# Altium schematic symbol library HydrogreenSchematicLibrary.SchLib: 60 symbols (part 2 of 4)
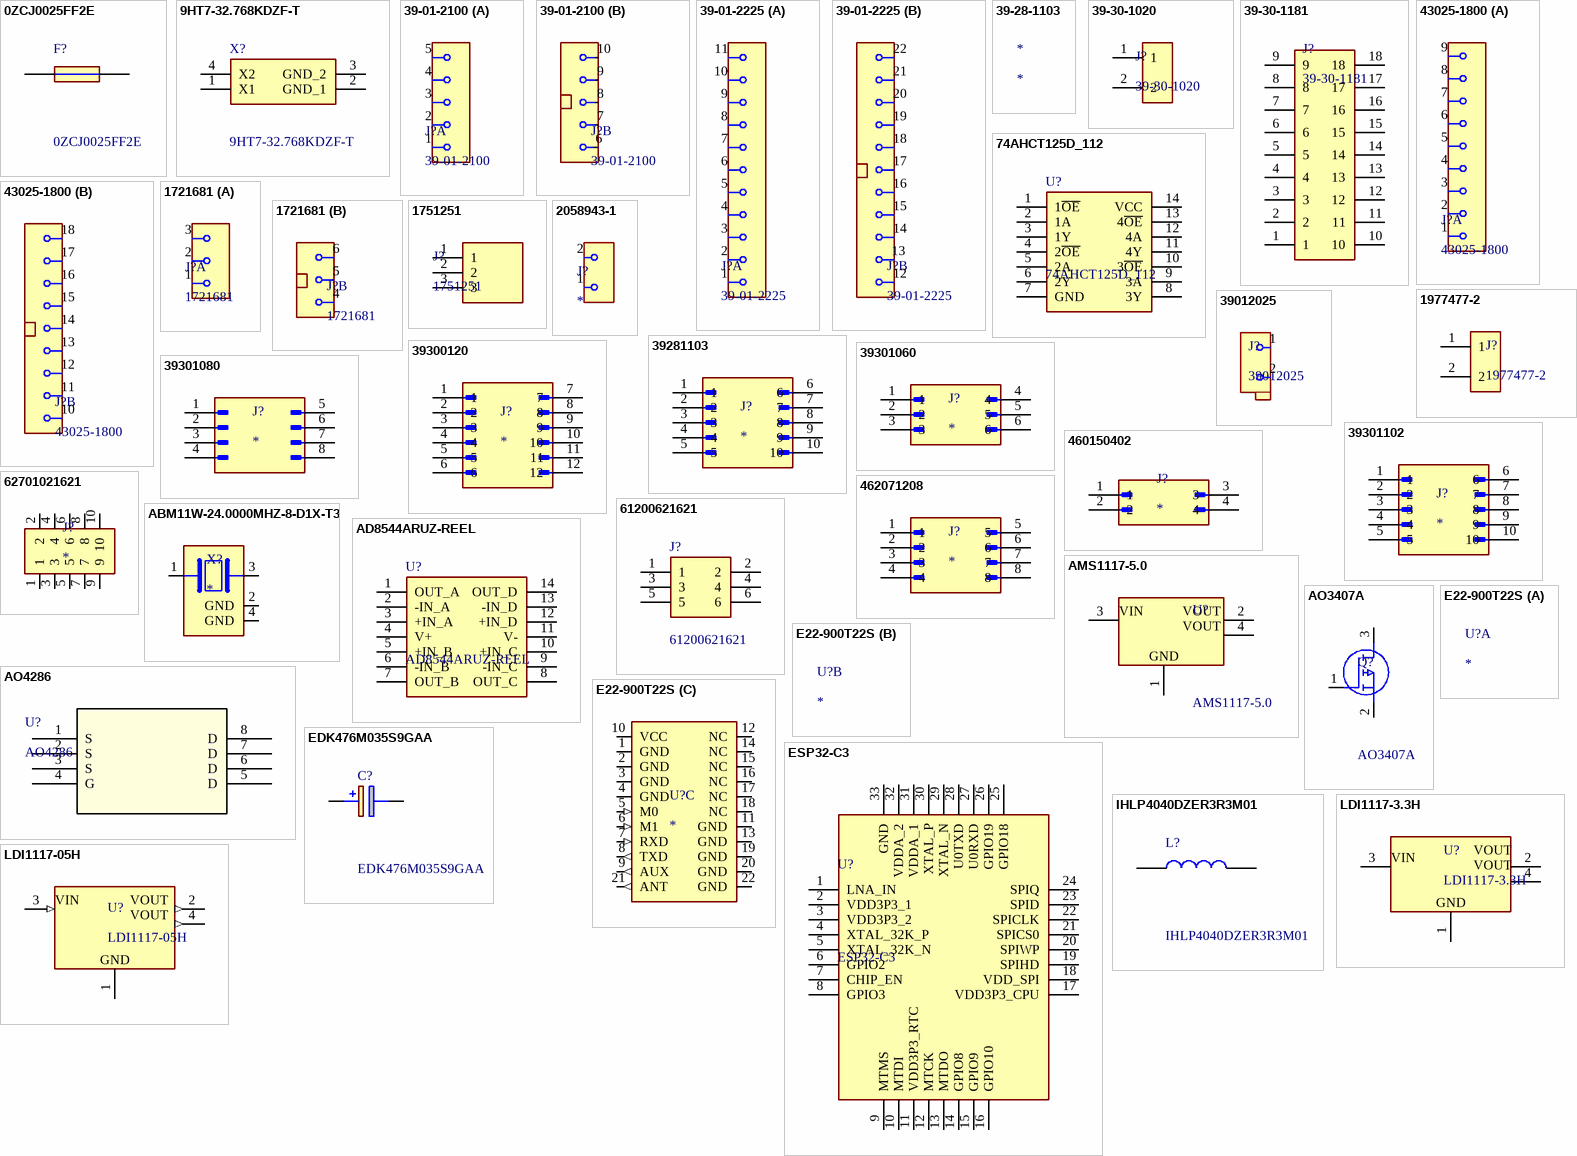
[diagram p2: symbols 0ZCJ0025FF2E to LDI1117-05H]

## 39300120
designator J?
Pin Header, Power, Wire-to-Board, 4.2 mm, 2 Rows, 12 Contacts, Through Hole Right Angle; Manufacturer: Molex; Manufacturer Lifecycle Status: ACTIVE; MP: 39300120; Connector Type: Rectangular; Contact Resistance: 10mΩ; Current Rating: 13A; Gender: Male; Glow Wire Compliant: Non-compliant; Insulation Resistance: 1GΩ; Max Current Rating: 6A; Max Voltage Rating (AC): 600V; Number of Circuits: 10; Number of Contacts: 12; Pitch: 4.2mm; Plating Thickness: 2.54µm; Row Spacing: 5.5mm; Package: None; Price: None; Value: *; Availability: Unavailable; Supplier: Farnell; Supplier Part Number: 4426659; Manufacturer Part Number: 39-30-0120; RoHS: Compliant; Category: Headers and Wire Housings; Stock: 2529; China RoHS: Compliant; Color: Natural; Contact Gender: Male; Contact Material: Brass; Contact Plating: Tin; Country of Origin: US; Depth: 19.4mm; Export Control Classification Number (ECCN) Code: EAR99; ELV: Compliant; Flammability Rating: UL94 V-0; Halogen Free: Low Halogen; Height: 11.78mm; Housing Color: Natural; Housing Material: Nylon; Harmonized Tariff Schedule (HTS) Code: 8536.69.40.30; Introduction Date: 1994-12-01; Lead Free: Lead Free; Lead Pitch: 4.2mm; Length: 26.4mm; Lifecycle Status: Production; Material: Nylon; Max Operating Temperature: 105°C; Min Operating Temperature: -40°C; Mounting Technology: Through Hole; Pins: 12; Number of Positions: 12; Number of Rows: 2; Orientation: Right Angle; Radiation Hardening: No; REACH SVHC: Yes; Schedule B: 8536694040, 8536694040|8536694040, 8536694040|8536694040|8536694040, 8536694040|8536694040|8536694040|8536694040; Termination: Solder; Voltage Rating: 600V; Voltage Rating (AC): 600V; Voltage Rating (DC): 600V; ComponentLink1URL: https://datasheet.octopart.com:443/39-30-0120-Molex-datasheet-164461616.pdf?src-supplier=Sager+Electronics; ComponentLink1Description: https://datasheet.octopart.com:443/39-30-0120-Molex-datasheet-164461616.pdf?src-supplier=Sager+Electronics; ComponentLink2URL: https://datasheet.octopart.com:443/0039300120-Molex-datasheet-150638829.pdf?src-supplier=Sager+Electronics; ComponentLink2Description: https://datasheet.octopart.com:443/0039300120-Molex-datasheet-150638829.pdf?src-supplier=Sager+Electronics; ComponentLink3URL: https://datasheet.octopart.com:443/39-30-0120-Molex-datasheet-177722898.pdf?src-supplier=IHS; ComponentLink3Description: https://datasheet.octopart.com:443/39-30-0120-Molex-datasheet-177722898.pdf?src-supplier=IHS; ComponentLink4URL: https://datasheet.octopart.com:443/39-30-0120-Molex-datasheet-13785307.pdf?src-supplier=Molex; ComponentLink4Description: https://datasheet.octopart.com:443/39-30-0120-Molex-datasheet-13785307.pdf?src-supplier=Molex; ComponentLink5URL: https://sigma.octopart.com:443/15644801/technical_drawing/Molex-39-30-0120.pdf?src-supplier=Molex; ComponentLink5Description: https://sigma.octopart.com:443/15644801/technical_drawing/Molex-39-30-0120.pdf?src-supplier=Molex; ComponentLink6URL: https://datasheet.octopart.com:443/039300120-Molex-datasheet-8338264.pdf?src-supplier=HQonline; ComponentLink6Description: https://datasheet.octopart.com:443/039300120-Molex-datasheet-8338264.pdf?src-supplier=HQonline; ComponentLink7URL: https://datasheet.octopart.com:443/39-30-0120-Molex-datasheet-5318197.pdf?src-supplier=HQonline; ComponentLink7Description: https://datasheet.octopart.com:443/39-30-0120-Molex-datasheet-5318197.pdf?src-supplier=HQonline; ComponentLink8URL: https://datasheet.octopart.com:443/39-30-0120-Molex-datasheet-154749323.pdf?src-supplier=Master+Electronics; ComponentLink8Description: https://datasheet.octopart.com:443/39-30-0120-Molex-datasheet-154749323.pdf?src-supplier=Master+Electronics; ComponentLink9URL: https://datasheet.octopart.com:443/39-30-0120-Molex-datasheet-8451564.pdf?src-supplier=Newark; ComponentLink9Description: https://datasheet.octopart.com:443/39-30-0120-Molex-datasheet-8451564.pdf?src-supplier=Newark; ComponentLink10URL: https://datasheet.octopart.com:443/39-30-0120-Molex-datasheet-8347247.pdf?src-supplier=Newark; ComponentLink10Description: https://datasheet.octopart.com:443/39-30-0120-Molex-datasheet-8347247.pdf?src-supplier=Newark; ComponentLink11URL: https://datasheet.octopart.com:443/39-30-0120-Molex-datasheet-5369630.pdf?src-supplier=Newark; ComponentLink11Description: https://datasheet.octopart.com:443/39-30-0120-Molex-datasheet-5369630.pdf?src-supplier=Newark; ComponentLink12URL: https://datasheet.octopart.com:443/39-30-0120-Molex-datasheet-101582402.pdf?src-supplier=Newark; ComponentLink12Description: https://datasheet.octopart.com:443/39-30-0120-Molex-datasheet-101582402.pdf?src-supplier=Newark; ComponentLink13URL: https://datasheet.octopart.com:443/39-30-0120-Molex-datasheet-21207475.pdf?src-supplier=Newark; ComponentLink13Description: https://datasheet.octopart.com:443/39-30-0120-Molex-datasheet-21207475.pdf?src-supplier=Newark; ComponentLink14URL: https://datasheet.octopart.com:443/39-30-0120-Molex-datasheet-23528.pdf?src-supplier=Newark; ComponentLink14Description: https://datasheet.octopart.com:443/39-30-0120-Molex-datasheet-23528.pdf?src-supplier=Newark; ComponentLink15URL: https://datasheet.octopart.com:443/39-30-0120-Molex-datasheet-168216307.pdf?src-supplier=TME; ComponentLink15Description: https://datasheet.octopart.com:443/39-30-0120-Molex-datasheet-168216307.pdf?src-supplier=TME; ComponentLink16URL: https://datasheet.octopart.com:443/39-30-0120-Molex-datasheet-166162034.pdf?src-supplier=Jameco; ComponentLink16Description: https://datasheet.octopart.com:443/39-30-0120-Molex-datasheet-166162034.pdf?src-supplier=Jameco; ComponentLink17URL: https://datasheet.octopart.com:443/39-30-0120-Molex-datasheet-7583997.pdf?src-supplier=Jameco; ComponentLink17Description: https://datasheet.octopart.com:443/39-30-0120-Molex-datasheet-7583997.pdf?src-supplier=Jameco; ComponentLink18URL: https://datasheet.octopart.com:443/39-30-0120-Molex-datasheet-140183161.pdf?src-supplier=RS+(Formerly+Allied+Electronics); ComponentLink18Description: https://datasheet.octopart.com:443/39-30-0120-Molex-datasheet-140183161.pdf?src-supplier=RS+(Formerly+Allied+Electronics); ComponentLink19URL: https://datasheet.octopart.com:443/39-30-0120-Molex-datasheet-120148713.pdf?src-supplier=RS+(Formerly+Allied+Electronics); ComponentLink19Description: https://datasheet.octopart.com:443/39-30-0120-Molex-datasheet-120148713.pdf?src-supplier=RS+(Formerly+Allied+Electronics); ComponentLink20URL: https://datasheet.octopart.com:443/39-30-0120-Molex-datasheet-34442213.pdf?src-supplier=RS+(Formerly+Allied+Electronics); ComponentLink20Description: https://datasheet.octopart.com:443/39-30-0120-Molex-datasheet-34442213.pdf?src-supplier=RS+(Formerly+Allied+Electronics); ComponentLink21URL: https://datasheet.octopart.com:443/39-30-0120-Molex-datasheet-62104192.pdf?src-supplier=Electro+Sonic; ComponentLink21Description: https://datasheet.octopart.com:443/39-30-0120-Molex-datasheet-62104192.pdf?src-supplier=Electro+Sonic; ComponentLink22URL: https://datasheet.octopart.com:443/39-30-0120-Molex-datasheet-37170044.pdf?src-supplier=Electro+Sonic; ComponentLink22Description: https://datasheet.octopart.com:443/39-30-0120-Molex-datasheet-37170044.pdf?src-supplier=Electro+Sonic; ComponentLink23URL: https://datasheet.octopart.com:443/39-30-0120-Molex-datasheet-23709666.pdf?src-supplier=Electro+Sonic; ComponentLink23Description: https://datasheet.octopart.com:443/39-30-0120-Molex-datasheet-23709666.pdf?src-supplier=Electro+Sonic; ComponentLink24URL: https://datasheet.octopart.com:443/0039300120-Molex-datasheet-11896684.pdf?src-supplier=Arrow+Electronics; ComponentLink24Description: https://datasheet.octopart.com:443/0039300120-Molex-datasheet-11896684.pdf?src-supplier=Arrow+Electronics; ComponentLink25URL: https://datasheet.octopart.com:443/39-30-0120-Molex-datasheet-10996185.pdf?src-supplier=Farnell; ComponentLink25Description: https://datasheet.octopart.com:443/39-30-0120-Molex-datasheet-10996185.pdf?src-supplier=Farnell; ComponentLink26URL: https://datasheet.octopart.com:443/39-30-0120-Molex-datasheet-5312830.pdf?src-supplier=Farnell; ComponentLink26Description: https://datasheet.octopart.com:443/39-30-0120-Molex-datasheet-5312830.pdf?src-supplier=Farnell; ComponentLink27URL: https://datasheet.octopart.com:443/39-30-0120-Molex-datasheet-8361750.pdf?src-supplier=Verical; ComponentLink27Description: https://datasheet.octopart.com:443/39-30-0120-Molex-datasheet-8361750.pdf?src-supplier=Verical; ComponentLink28URL: https://datasheet.octopart.com:443/39-30-0120-Molex-datasheet-139323.pdf?src-supplier=DigiKey; ComponentLink28Description: https://datasheet.octopart.com:443/39-30-0120-Molex-datasheet-139323.pdf?src-supplier=DigiKey; ComponentLink29URL: http://sigma.octopart.com:80/15645366/rohs_certificate/Molex-39-30-0120.pdf?src-supplier=Compliance+Statements; ComponentLink29Description: http://sigma.octopart.com:80/15645366/rohs_certificate/Molex-39-30-0120.pdf?src-supplier=Compliance+Statements; ComponentLink30URL: http://sigma.octopart.com:80/reach_statement/Molex-company-74.pdf?src-supplier=Compliance+Statements; ComponentLink30Description: http://sigma.octopart.com:80/reach_statement/Molex-company-74.pdf?src-supplier=Compliance+Statements; ComponentLink31URL: http://sigma.octopart.com:80/rohs_statement/Molex-company-73.pdf?src-supplier=Compliance+Statements; ComponentLink31Description: http://sigma.octopart.com:80/rohs_statement/Molex-company-73.pdf?src-supplier=Compliance+Statements; ComponentLink32URL: http://sigma.octopart.com:80/conflict_mineral_statement/Molex-company-72.pdf?src-supplier=Compliance+Statements; ComponentLink32Description: http://sigma.octopart.com:80/conflict_mineral_statement/Molex-company-72.pdf?src-supplier=Compliance+Statements
footprint 39300120
pins: 1, 2, 3, 4, 5, 6, 7, 8, 9, 10, 11, 12

## 39301060
designator J?
Mini-Fit Jr. Through Hole PCB Header, Right Angle, 6 Contacts, 2 Rows, 4.2mm Pitch; Manufacturer: Molex; Manufacturer Lifecycle Status: ACTIVE; MP: 39301060; Approvals: CSA, TUV, UL; Connector Type: Power, Rectangular; Contact Resistance: 10mΩ; Current Rating: 8A; Gender: Male; Glow Wire Compliant: Non-compliant; Insulation Resistance: 1GΩ; Max Voltage Rating (AC): 600V; Number of Circuits: 4; Number of Contacts: 6; Number of Lines: 2; Plating Thickness: 2.54µm; Row Spacing: 5.5mm; Test Voltage: 1.5kV; Price: None; Value: *; Availability: Unavailable; Package: None; Supplier: RS; Supplier Part Number: 5109859P; Manufacturer Part Number: 39-30-1060; RoHS: Compliant; Category: Headers and Wire Housings; Stock: 3490; China RoHS: Compliant; Color: Natural; Contact Gender: Male; Contact Material: Brass; Contact Plating: Tin; Country of Origin: US; Depth: 12.8mm; ELV: Compliant; Flammability Rating: UL94 V-2; Halogen Free: Low Halogen; Height: 11.65mm; Housing Color: Natural; Housing Material: Nylon; Lead Free: Lead Free; Lead Pitch: 4.2mm; Length: 13.8mm; Lifecycle Status: Production; Material: Nylon; Max Current Rating: 8A; Max Operating Temperature: 105°C; Min Operating Temperature: -40°C; Mounting Technology: PCB, Through Hole; Pins: 6; Number of Poles: 6; Number of Positions: 6; Number of Rows: 1; Orientation: Right Angle, Vertical; Packaging: Bulk; Pitch: 4.2mm; Radiation Hardening: No; REACH SVHC: Yes; Schedule B: 8536694040, 8536694040|8536694040|8536694040|8536694040|8536694040|8536694040|8536694040|8536694040|8536694040|8536694040|8536694040|8536694040|8536694040|8536694040|8536694040|8536694040|8536694040|8536694040|8536694040|8536694040|8536694040|8536694040|8536694040|85; Termination: Solder; Voltage Rating: 600V; Voltage Rating (AC): 600V; Voltage Rating (DC): 600V; Working Voltage: 600V; ComponentLink1URL: https://datasheet.octopart.com:443/39-30-1060-Molex-datasheet-120074128.pdf?src-supplier=Farnell; ComponentLink1Description: https://datasheet.octopart.com:443/39-30-1060-Molex-datasheet-120074128.pdf?src-supplier=Farnell; ComponentLink2URL: https://datasheet.octopart.com:443/39-30-1060-Molex-datasheet-101582409.pdf?src-supplier=Farnell; ComponentLink2Description: https://datasheet.octopart.com:443/39-30-1060-Molex-datasheet-101582409.pdf?src-supplier=Farnell; ComponentLink3URL: https://datasheet.octopart.com:443/39-30-1060-Molex-datasheet-14359237.pdf?src-supplier=Farnell; ComponentLink3Description: https://datasheet.octopart.com:443/39-30-1060-Molex-datasheet-14359237.pdf?src-supplier=Farnell; ComponentLink4URL: https://datasheet.octopart.com:443/39-30-1060-Molex-datasheet-8451564.pdf?src-supplier=Farnell; ComponentLink4Description: https://datasheet.octopart.com:443/39-30-1060-Molex-datasheet-8451564.pdf?src-supplier=Farnell; ComponentLink5URL: https://datasheet.octopart.com:443/39-30-1060-Molex-datasheet-8377082.pdf?src-supplier=Farnell; ComponentLink5Description: https://datasheet.octopart.com:443/39-30-1060-Molex-datasheet-8377082.pdf?src-supplier=Farnell; ComponentLink6URL: https://datasheet.octopart.com:443/39-30-1060-Molex-datasheet-8338264.pdf?src-supplier=Farnell; ComponentLink6Description: https://datasheet.octopart.com:443/39-30-1060-Molex-datasheet-8338264.pdf?src-supplier=Farnell; ComponentLink7URL: https://datasheet.octopart.com:443/039301060-Molex-datasheet-8338717.pdf?src-supplier=Upverter; ComponentLink7Description: https://datasheet.octopart.com:443/039301060-Molex-datasheet-8338717.pdf?src-supplier=Upverter; ComponentLink8URL: https://datasheet.octopart.com:443/39-30-1060-Molex-datasheet-13785479.pdf?src-supplier=Sager+Electronics; ComponentLink8Description: https://datasheet.octopart.com:443/39-30-1060-Molex-datasheet-13785479.pdf?src-supplier=Sager+Electronics; ComponentLink9URL: https://sigma.octopart.com:443/15644801/technical_drawing/Molex-39-30-1060.pdf?src-supplier=Molex; ComponentLink9Description: https://sigma.octopart.com:443/15644801/technical_drawing/Molex-39-30-1060.pdf?src-supplier=Molex; ComponentLink10URL: https://datasheet.octopart.com:443/39-30-1060-Molex-datasheet-154749339.pdf?src-supplier=Master+Electronics; ComponentLink10Description: https://datasheet.octopart.com:443/39-30-1060-Molex-datasheet-154749339.pdf?src-supplier=Master+Electronics; ComponentLink11URL: https://datasheet.octopart.com:443/39-30-1060-Molex-datasheet-34205327.pdf?src-supplier=Electro+Sonic; ComponentLink11Description: https://datasheet.octopart.com:443/39-30-1060-Molex-datasheet-34205327.pdf?src-supplier=Electro+Sonic; ComponentLink12URL: https://datasheet.octopart.com:443/39-30-1060-Molex-datasheet-62104200.pdf?src-supplier=Electro+Sonic; ComponentLink12Description: https://datasheet.octopart.com:443/39-30-1060-Molex-datasheet-62104200.pdf?src-supplier=Electro+Sonic; ComponentLink13URL: https://datasheet.octopart.com:443/39-30-1060-Molex-datasheet-23709672.pdf?src-supplier=Electro+Sonic; ComponentLink13Description: https://datasheet.octopart.com:443/39-30-1060-Molex-datasheet-23709672.pdf?src-supplier=Electro+Sonic; ComponentLink14URL: https://datasheet.octopart.com:443/39-30-1060-Molex-datasheet-140183176.pdf?src-supplier=RS+(Formerly+Allied+Electronics); ComponentLink14Description: https://datasheet.octopart.com:443/39-30-1060-Molex-datasheet-140183176.pdf?src-supplier=RS+(Formerly+Allied+Electronics); ComponentLink15URL: https://datasheet.octopart.com:443/39-30-1060-Molex-datasheet-120148730.pdf?src-supplier=RS+(Formerly+Allied+Electronics); ComponentLink15Description: https://datasheet.octopart.com:443/39-30-1060-Molex-datasheet-120148730.pdf?src-supplier=RS+(Formerly+Allied+Electronics); ComponentLink16URL: https://datasheet.octopart.com:443/39-30-1060-Molex-datasheet-34442213.pdf?src-supplier=RS+(Formerly+Allied+Electronics); ComponentLink16Description: https://datasheet.octopart.com:443/39-30-1060-Molex-datasheet-34442213.pdf?src-supplier=RS+(Formerly+Allied+Electronics); ComponentLink17URL: https://datasheet.octopart.com:443/39-30-1060-Molex-datasheet-9719424.pdf?src-supplier=RS+(Formerly+Allied+Electronics); ComponentLink17Description: https://datasheet.octopart.com:443/39-30-1060-Molex-datasheet-9719424.pdf?src-supplier=RS+(Formerly+Allied+Electronics); ComponentLink18URL: https://datasheet.octopart.com:443/39-30-1060-Molex-datasheet-72655.pdf?src-supplier=RS+(Formerly+Allied+Electronics); ComponentLink18Description: https://datasheet.octopart.com:443/39-30-1060-Molex-datasheet-72655.pdf?src-supplier=RS+(Formerly+Allied+Electronics); ComponentLink19URL: https://datasheet.octopart.com:443/39-30-1060-Molex-datasheet-166013077.pdf?src-supplier=Jameco; ComponentLink19Description: https://datasheet.octopart.com:443/39-30-1060-Molex-datasheet-166013077.pdf?src-supplier=Jameco; ComponentLink20URL: https://datasheet.octopart.com:443/39301060-Molex-datasheet-8215776.pdf?src-supplier=Jameco; ComponentLink20Description: https://datasheet.octopart.com:443/39301060-Molex-datasheet-8215776.pdf?src-supplier=Jameco; ComponentLink21URL: https://datasheet.octopart.com:443/39-30-1060-Molex-datasheet-33002875.pdf?src-supplier=Newark; ComponentLink21Description: https://datasheet.octopart.com:443/39-30-1060-Molex-datasheet-33002875.pdf?src-supplier=Newark; ComponentLink22URL: https://datasheet.octopart.com:443/39-30-1060-Molex-datasheet-21207487.pdf?src-supplier=Newark; ComponentLink22Description: https://datasheet.octopart.com:443/39-30-1060-Molex-datasheet-21207487.pdf?src-supplier=Newark; ComponentLink23URL: https://datasheet.octopart.com:443/39-30-1060-Molex-datasheet-2405.pdf?src-supplier=Newark; ComponentLink23Description: https://datasheet.octopart.com:443/39-30-1060-Molex-datasheet-2405.pdf?src-supplier=Newark; ComponentLink24URL: https://datasheet.octopart.com:443/39-30-1060-Molex-datasheet-21395541.pdf?src-supplier=TME; ComponentLink24Description: https://datasheet.octopart.com:443/39-30-1060-Molex-datasheet-21395541.pdf?src-supplier=TME; ComponentLink25URL: https://datasheet.octopart.com:443/0039301060-Molex-datasheet-11554567.pdf?src-supplier=Arrow+Electronics; ComponentLink25Description: https://datasheet.octopart.com:443/0039301060-Molex-datasheet-11554567.pdf?src-supplier=Arrow+Electronics; ComponentLink26URL: https://datasheet.octopart.com:443/39-30-1060-Molex-datasheet-8361750.pdf?src-supplier=Verical; ComponentLink26Description: https://datasheet.octopart.com:443/39-30-1060-Molex-datasheet-8361750.pdf?src-supplier=Verical; ComponentLink27URL: https://datasheet.octopart.com:443/39-30-1060-Molex-datasheet-129274.pdf?src-supplier=DigiKey; ComponentLink27Description: https://datasheet.octopart.com:443/39-30-1060-Molex-datasheet-129274.pdf?src-supplier=DigiKey; ComponentLink28URL: http://sigma.octopart.com:80/15645378/rohs_certificate/Molex-39-30-1060.pdf?src-supplier=Compliance+Statements; ComponentLink28Description: http://sigma.octopart.com:80/15645378/rohs_certificate/Molex-39-30-1060.pdf?src-supplier=Compliance+Statements; ComponentLink29URL: http://sigma.octopart.com:80/conflict_mineral_statement/Molex-company-72.pdf?src-supplier=Compliance+Statements; ComponentLink29Description: http://sigma.octopart.com:80/conflict_mineral_statement/Molex-company-72.pdf?src-supplier=Compliance+Statements; ComponentLink30URL: http://sigma.octopart.com:80/rohs_statement/Molex-company-73.pdf?src-supplier=Compliance+Statements; ComponentLink30Description: http://sigma.octopart.com:80/rohs_statement/Molex-company-73.pdf?src-supplier=Compliance+Statements; ComponentLink31URL: http://sigma.octopart.com:80/reach_statement/Molex-company-74.pdf?src-supplier=Compliance+Statements; ComponentLink31Description: http://sigma.octopart.com:80/reach_statement/Molex-company-74.pdf?src-supplier=Compliance+Statements
footprint 39301060
pins: 1, 2, 3, 4, 5, 6

## 39301080
designator J?
Connector Wire to Board Header 8 Position 4.2mm Solder Right Angle Thru-Hole Tray; Manufacturer Lifecycle Status: ACTIVE; MF: Molex; Approvals: CSA, TUV, UL; Connector Type: Power, Rectangular; Contact Resistance: 10mΩ; Current Rating: 8A; Gender: Male; Glow Wire Compliant: Non-compliant; Insulation Resistance: 1GΩ; Max Current Rating: 5A; Max Voltage Rating (DC): 250V; Number of Circuits: 6; Number of Contacts: 8; Plating Thickness: 2.54µm; Voltage Rating: 600V; SnapEDA_Link: https://www.snapeda.com/parts/39-30-1080/Molex/view-part/?ref=snap; Package: None; Value: *; MP: 39-30-1080; Check_prices: https://www.snapeda.com/parts/39-30-1080/Molex/view-part/?ref=eda; Supplier: RS; Supplier Part Number: 5109865P; Manufacturer: Molex; Manufacturer Part Number: 39-30-1080; RoHS: Compliant; Category: Headers and Wire Housings; Stock: 1025; China RoHS: Compliant; Color: Natural; Contact Gender: Male; Contact Material: Brass; Contact Plating: Tin; Country of Origin: US; Depth: 5.57mm; ELV: Compliant; Flammability Rating: UL94 V-2; Halogen Free: Low Halogen; Height: 9.9mm; Housing Material: Nylon; Lead Free: Lead Free; Lead Pitch: 4.2mm; Length: 15.65mm; Lifecycle Status: Production; Material: Nylon; Max Operating Temperature: 105°C; Min Operating Temperature: -40°C; Mounting Technology: PCB, Through Hole; Pins: 8; Number of Poles: 8; Number of Positions: 8; Number of Rows: 2; Orientation: Right Angle; Packaging: Bulk; Pitch: 4.2mm; Radiation Hardening: No; REACH SVHC: Yes; Row Spacing: 4.2mm; Schedule B: 8536694040, 8536694040|8536694040|8536694040|8536694040|8536694040; Termination: Solder; Voltage Rating (AC): 600V; Voltage Rating (DC): 600V; Working Voltage: 600V; ComponentLink1URL: https://datasheet.octopart.com:443/39-30-1080-Molex-datasheet-120074128.pdf?src-supplier=IHS; ComponentLink1Description: https://datasheet.octopart.com:443/39-30-1080-Molex-datasheet-120074128.pdf?src-supplier=IHS; ComponentLink2URL: https://datasheet.octopart.com:443/39-30-1080-Molex-datasheet-13785313.pdf?src-supplier=Sager+Electronics; ComponentLink2Description: https://datasheet.octopart.com:443/39-30-1080-Molex-datasheet-13785313.pdf?src-supplier=Sager+Electronics; ComponentLink3URL: https://sigma.octopart.com:443/15644801/technical_drawing/Molex-39-30-1080.pdf?src-supplier=Molex; ComponentLink3Description: https://sigma.octopart.com:443/15644801/technical_drawing/Molex-39-30-1080.pdf?src-supplier=Molex; ComponentLink4URL: https://datasheet.octopart.com:443/39-30-1080-Molex-datasheet-12555477.pdf?src-supplier=Molex; ComponentLink4Description: https://datasheet.octopart.com:443/39-30-1080-Molex-datasheet-12555477.pdf?src-supplier=Molex; ComponentLink5URL: https://datasheet.octopart.com:443/039301080-Molex-datasheet-8338717.pdf?src-supplier=Future+Electronics; ComponentLink5Description: https://datasheet.octopart.com:443/039301080-Molex-datasheet-8338717.pdf?src-supplier=Future+Electronics; ComponentLink6URL: https://datasheet.octopart.com:443/39301080-Molex-datasheet-137316104.pdf?src-supplier=Future+Electronics; ComponentLink6Description: https://datasheet.octopart.com:443/39301080-Molex-datasheet-137316104.pdf?src-supplier=Future+Electronics; ComponentLink7URL: https://datasheet.octopart.com:443/39-30-1080-Molex-datasheet-154749340.pdf?src-supplier=Master+Electronics; ComponentLink7Description: https://datasheet.octopart.com:443/39-30-1080-Molex-datasheet-154749340.pdf?src-supplier=Master+Electronics; ComponentLink8URL: https://datasheet.octopart.com:443/39-30-1080-Molex-datasheet-101582412.pdf?src-supplier=Farnell; ComponentLink8Description: https://datasheet.octopart.com:443/39-30-1080-Molex-datasheet-101582412.pdf?src-supplier=Farnell; ComponentLink9URL: https://datasheet.octopart.com:443/39-30-1080-Molex-datasheet-15687899.pdf?src-supplier=Farnell; ComponentLink9Description: https://datasheet.octopart.com:443/39-30-1080-Molex-datasheet-15687899.pdf?src-supplier=Farnell; ComponentLink10URL: https://datasheet.octopart.com:443/39-30-1080-Molex-datasheet-13550729.pdf?src-supplier=Farnell; ComponentLink10Description: https://datasheet.octopart.com:443/39-30-1080-Molex-datasheet-13550729.pdf?src-supplier=Farnell; ComponentLink11URL: https://datasheet.octopart.com:443/39-30-1080-Molex-datasheet-34223370.pdf?src-supplier=Electro+Sonic; ComponentLink11Description: https://datasheet.octopart.com:443/39-30-1080-Molex-datasheet-34223370.pdf?src-supplier=Electro+Sonic; ComponentLink12URL: https://datasheet.octopart.com:443/39-30-1080-Molex-datasheet-62104202.pdf?src-supplier=Electro+Sonic; ComponentLink12Description: https://datasheet.octopart.com:443/39-30-1080-Molex-datasheet-62104202.pdf?src-supplier=Electro+Sonic; ComponentLink13URL: https://datasheet.octopart.com:443/39-30-1080-Molex-datasheet-23709674.pdf?src-supplier=Electro+Sonic; ComponentLink13Description: https://datasheet.octopart.com:443/39-30-1080-Molex-datasheet-23709674.pdf?src-supplier=Electro+Sonic; ComponentLink14URL: https://datasheet.octopart.com:443/39-30-1080-Molex-datasheet-140183179.pdf?src-supplier=RS+(Formerly+Allied+Electronics); ComponentLink14Description: https://datasheet.octopart.com:443/39-30-1080-Molex-datasheet-140183179.pdf?src-supplier=RS+(Formerly+Allied+Electronics); ComponentLink15URL: https://datasheet.octopart.com:443/39-30-1080-Molex-datasheet-120148733.pdf?src-supplier=RS+(Formerly+Allied+Electronics); ComponentLink15Description: https://datasheet.octopart.com:443/39-30-1080-Molex-datasheet-120148733.pdf?src-supplier=RS+(Formerly+Allied+Electronics); ComponentLink16URL: https://datasheet.octopart.com:443/39-30-1080-Molex-datasheet-34442213.pdf?src-supplier=RS+(Formerly+Allied+Electronics); ComponentLink16Description: https://datasheet.octopart.com:443/39-30-1080-Molex-datasheet-34442213.pdf?src-supplier=RS+(Formerly+Allied+Electronics); ComponentLink17URL: https://datasheet.octopart.com:443/39-30-1080-Molex-datasheet-9783732.pdf?src-supplier=RS+(Formerly+Allied+Electronics); ComponentLink17Description: https://datasheet.octopart.com:443/39-30-1080-Molex-datasheet-9783732.pdf?src-supplier=RS+(Formerly+Allied+Electronics); ComponentLink18URL: https://datasheet.octopart.com:443/39-30-1080-Molex-datasheet-72655.pdf?src-supplier=RS+(Formerly+Allied+Electronics); ComponentLink18Description: https://datasheet.octopart.com:443/39-30-1080-Molex-datasheet-72655.pdf?src-supplier=RS+(Formerly+Allied+Electronics); ComponentLink19URL: https://datasheet.octopart.com:443/39-30-1080-Molex-datasheet-156091078.pdf?src-supplier=Jameco; ComponentLink19Description: https://datasheet.octopart.com:443/39-30-1080-Molex-datasheet-156091078.pdf?src-supplier=Jameco; ComponentLink20URL: https://datasheet.octopart.com:443/39301080-Molex-datasheet-8197183.pdf?src-supplier=Jameco; ComponentLink20Description: https://datasheet.octopart.com:443/39301080-Molex-datasheet-8197183.pdf?src-supplier=Jameco; ComponentLink21URL: https://datasheet.octopart.com:443/39-30-1080-Molex-datasheet-7269772.pdf?src-supplier=Jameco; ComponentLink21Description: https://datasheet.octopart.com:443/39-30-1080-Molex-datasheet-7269772.pdf?src-supplier=Jameco; ComponentLink22URL: https://datasheet.octopart.com:443/39-30-1080-Molex-datasheet-33002877.pdf?src-supplier=Newark; ComponentLink22Description: https://datasheet.octopart.com:443/39-30-1080-Molex-datasheet-33002877.pdf?src-supplier=Newark; ComponentLink23URL: https://datasheet.octopart.com:443/39-30-1080-Molex-datasheet-21207490.pdf?src-supplier=Newark; ComponentLink23Description: https://datasheet.octopart.com:443/39-30-1080-Molex-datasheet-21207490.pdf?src-supplier=Newark; ComponentLink24URL: https://datasheet.octopart.com:443/39-30-1080-Molex-datasheet-2405.pdf?src-supplier=Newark; ComponentLink24Description: https://datasheet.octopart.com:443/39-30-1080-Molex-datasheet-2405.pdf?src-supplier=Newark; ComponentLink25URL: https://datasheet.octopart.com:443/39-30-1080-Molex-datasheet-21395541.pdf?src-supplier=TME; ComponentLink25Description: https://datasheet.octopart.com:443/39-30-1080-Molex-datasheet-21395541.pdf?src-supplier=TME; ComponentLink26URL: https://datasheet.octopart.com:443/39-30-1080-Molex-datasheet-8361750.pdf?src-supplier=Verical; ComponentLink26Description: https://datasheet.octopart.com:443/39-30-1080-Molex-datasheet-8361750.pdf?src-supplier=Verical; ComponentLink27URL: https://datasheet.octopart.com:443/39-30-1080-Molex-datasheet-145504.pdf?src-supplier=DigiKey; ComponentLink27Description: https://datasheet.octopart.com:443/39-30-1080-Molex-datasheet-145504.pdf?src-supplier=DigiKey; ComponentLink28URL: http://sigma.octopart.com:80/15645381/rohs_certificate/Molex-39-30-1080.pdf?src-supplier=Compliance+Statements; ComponentLink28Description: http://sigma.octopart.com:80/15645381/rohs_certificate/Molex-39-30-1080.pdf?src-supplier=Compliance+Statements; ComponentLink29URL: http://sigma.octopart.com:80/conflict_mineral_statement/Molex-company-72.pdf?src-supplier=Compliance+Statements; ComponentLink29Description: http://sigma.octopart.com:80/conflict_mineral_statement/Molex-company-72.pdf?src-supplier=Compliance+Statements; ComponentLink30URL: http://sigma.octopart.com:80/rohs_statement/Molex-company-73.pdf?src-supplier=Compliance+Statements; ComponentLink30Description: http://sigma.octopart.com:80/rohs_statement/Molex-company-73.pdf?src-supplier=Compliance+Statements; ComponentLink31URL: http://sigma.octopart.com:80/reach_statement/Molex-company-74.pdf?src-supplier=Compliance+Statements; ComponentLink31Description: http://sigma.octopart.com:80/reach_statement/Molex-company-74.pdf?src-supplier=Compliance+Statements
footprint 39301080
pins: 1, 2, 3, 4, 5, 6, 7, 8

## 39301102
designator J?
Mini-Fit Jr. Header, Dual Row, Right Angle, with Snap-in Plastic Peg PCB Lock, 10 Circuits, PA Polyamide Nylon 6/6 94V-0, Tin (Sn) Plating; MP: 39301102; Value: *; Price: None; Availability: Unavailable; Package: None
footprint 39301102
pins: 1, 2, 3, 4, 5, 6, 7, 8, 9, 10

## 460150402
designator J?
vert header, DR, 4w, tin, UL94V-0 | Molex Incorporated 46015-0402; SnapEDA_Link: https://www.snapeda.com/parts/46015-0402/Molex/view-part/?ref=snap; Package: None; Value: *; MF: Molex; MP: 46015-0402; Check_prices: https://www.snapeda.com/parts/46015-0402/Molex/view-part/?ref=eda
footprint 460150402
pins: 1, 2, 3, 4

## 462071208
designator J?
Mini-Fit Jr 46207 ROHS3Compliant Tin Solder Connector Header 100.0muin 2.54mum; Manufacturer: Molex; Manufacturer Part Number: 46207-1208; Manufacturer Lifecycle Status: ACTIVE; MP: 462071208; Current Rating: 9A; Dielectric Material: Polyethylene; Number of Circuits: 8; Pitch: 4.2mm; Voltage Rating: 600V; Package: None; Value: *; Availability: Unavailable; Price: None; Supplier: Farnell; Supplier Part Number: 3536728; RoHS: Compliant; Category: Headers and Wire Housings; Stock: 3316; China RoHS: Compliant; Color: Black; Contact Gender: Female; Contact Material: Brass; Contact Plating: Tin; Country of Origin: MX; Glow Wire Compliant: Compliant; Halogen Free: Low Halogen; Housing Material: Thermoplastic; Lifecycle Status: Production; Max Operating Temperature: 105°C; Min Operating Temperature: -40°C; Pins: 8; Number of Positions: 8; Number of Rows: 2; Orientation: Vertical; REACH SVHC: Yes; Row Spacing: 4.2mm; Termination: Through Hole; ComponentLink1URL: https://datasheet.octopart.com:443/462071208-Molex-datasheet-180773589.pdf?src-supplier=IHS; ComponentLink1Description: https://datasheet.octopart.com:443/462071208-Molex-datasheet-180773589.pdf?src-supplier=IHS; ComponentLink2URL: https://datasheet.octopart.com:443/462071208-Molex-datasheet-16395072.pdf?src-supplier=Molex; ComponentLink2Description: https://datasheet.octopart.com:443/462071208-Molex-datasheet-16395072.pdf?src-supplier=Molex; ComponentLink3URL: https://datasheet.octopart.com:443/46207-1208-Molex-datasheet-12571497.pdf?src-supplier=Molex; ComponentLink3Description: https://datasheet.octopart.com:443/46207-1208-Molex-datasheet-12571497.pdf?src-supplier=Molex; ComponentLink4URL: https://datasheet.octopart.com:443/46207-1208-Molex-datasheet-175423246.pdf?src-supplier=Newark; ComponentLink4Description: https://datasheet.octopart.com:443/46207-1208-Molex-datasheet-175423246.pdf?src-supplier=Newark; ComponentLink5URL: https://datasheet.octopart.com:443/0462071208-Molex-datasheet-11743555.pdf?src-supplier=Arrow+Electronics; ComponentLink5Description: https://datasheet.octopart.com:443/0462071208-Molex-datasheet-11743555.pdf?src-supplier=Arrow+Electronics; ComponentLink6URL: http://sigma.octopart.com:80/16395073/rohs_statement/Molex-462071208.pdf?src-supplier=Compliance+Statements; ComponentLink6Description: http://sigma.octopart.com:80/16395073/rohs_statement/Molex-462071208.pdf?src-supplier=Compliance+Statements; ComponentLink7URL: http://sigma.octopart.com:80/reach_statement/Molex-company-74.pdf?src-supplier=Compliance+Statements; ComponentLink7Description: http://sigma.octopart.com:80/reach_statement/Molex-company-74.pdf?src-supplier=Compliance+Statements; ComponentLink8URL: http://sigma.octopart.com:80/rohs_statement/Molex-company-73.pdf?src-supplier=Compliance+Statements; ComponentLink8Description: http://sigma.octopart.com:80/rohs_statement/Molex-company-73.pdf?src-supplier=Compliance+Statements; ComponentLink9URL: http://sigma.octopart.com:80/conflict_mineral_statement/Molex-company-72.pdf?src-supplier=Compliance+Statements; ComponentLink9Description: http://sigma.octopart.com:80/conflict_mineral_statement/Molex-company-72.pdf?src-supplier=Compliance+Statements
footprint 462071208
pins: 1, 2, 3, 4, 5, 6, 7, 8

## 61200621621
designator J?
Conn Shrouded Header (4 Sides) M 6 POS 2.54mm Solder ST Top Entry Thru-Hole Tray; Manufacturer_Name: Wurth Elektronik; Geometry.Height: 9.1mm; Connector Type: Male Pin; Contact Resistance: 20mΩ; Current Rating: 3A; Gender: Male; Insulation Resistance: 1GΩ; Number of Contacts: 6; Operating Supply Voltage: 250V; Manufacturer_Part_Number: 61200621621; Mouser Part Number: 710-61200621621; Mouser Price/Stock: https://www.mouser.co.uk/ProductDetail/Wurth-Elektronik/61200621621?qs=PhR8RmCirEbjX8n1RKw4Jw%3D%3D; Arrow Part Number: *; Arrow Price/Stock: *; Datasheet Link: https://katalog.we-online.de/em/datasheet/6120xx21621.pdf; Supplier: RS; Supplier Part Number: 8236430; Manufacturer: Wurth Elektronik; Manufacturer Part Number: 61200621621; RoHS: Compliant; Category: Headers and Wire Housings; Stock: 450; Color: Black; Contact Material: Copper; Contact Plating: Gold; Insulation Material: PBT; Lead Pitch: 2.54mm; Length: 15.28mm; Max Operating Temperature: 105°C; Min Operating Temperature: -40°C; Mounting Technology: Through Hole; Pins: 6; Number of Positions: 6; Number of Rows: 2; Orientation: Vertical; Pitch: 2.54mm; Row Spacing: 2.54mm; Termination: Solder; ComponentLink1URL: https://datasheet.octopart.com:443/61200621621-Wurth-Elektronik-datasheet-168479915.pdf?src-supplier=Newark; ComponentLink1Description: https://datasheet.octopart.com:443/61200621621-Wurth-Elektronik-datasheet-168479915.pdf?src-supplier=Newark; ComponentLink2URL: https://datasheet.octopart.com:443/61200621621-W%C3%BCrth-Elektronik-datasheet-5367532.pdf?src-supplier=Newark; ComponentLink2Description: https://datasheet.octopart.com:443/61200621621-W%C3%BCrth-Elektronik-datasheet-5367532.pdf?src-supplier=Newark; ComponentLink3URL: https://datasheet.octopart.com:443/61200621621-W%C3%BCrth-Elektronik-datasheet-62127819.pdf?src-supplier=Upverter; ComponentLink3Description: https://datasheet.octopart.com:443/61200621621-W%C3%BCrth-Elektronik-datasheet-62127819.pdf?src-supplier=Upverter; ComponentLink4URL: https://datasheet.octopart.com:443/61200621621-W%C3%BCrth-Elektronik-datasheet-111087935.pdf?src-supplier=Wurth+Elektronik; ComponentLink4Description: https://datasheet.octopart.com:443/61200621621-W%C3%BCrth-Elektronik-datasheet-111087935.pdf?src-supplier=Wurth+Elektronik; ComponentLink5URL: https://datasheet.octopart.com:443/61200621621-W%C3%BCrth-Elektronik-datasheet-149523874.pdf?src-supplier=Farnell; ComponentLink5Description: https://datasheet.octopart.com:443/61200621621-W%C3%BCrth-Elektronik-datasheet-149523874.pdf?src-supplier=Farnell
footprint 61200621621
pins: 1, 2, 3, 4, 5, 6

## 62701021621
designator J?
Conn, Header, 10Pos, 2Row, 1.27Mm Rohs Compliant: Yes |Würth Elektronik 62701021621; Manufacturer: Wurth Elektronik; MF: {'manufacturer': u'W\xfcrth Elektronik'}; Current Rating: 1A; Insulation Resistance: 1GΩ; Number of Contacts: 10; Voltage Rating: 50V; Package: None; Price: None; Value: *; MP: 62701021621; Availability: Unavailable; Supplier: Farnell; Supplier Part Number: 3818127; Manufacturer Part Number: 62701021621; RoHS: Compliant; Category: Headers and Wire Housings; Stock: 249; Contact Material: Gold, Nickel; Height: 5.1mm; Length: 11.1mm; Max Operating Temperature: 105°C; Min Operating Temperature: -40°C; Pins: 10; Number of Rows: 2; Pitch: 1.27mm; ComponentLink1URL: https://datasheet.octopart.com:443/62701021621-W%C3%BCrth-Elektronik-datasheet-157855722.pdf?src-supplier=Wurth+Elektronik; ComponentLink1Description: https://datasheet.octopart.com:443/62701021621-W%C3%BCrth-Elektronik-datasheet-157855722.pdf?src-supplier=Wurth+Elektronik
footprint 62701021621
pins: 1, 2, 3, 4, 5, 6, 7, 8, 9, 10

## ABM11W-24.0000MHZ-8-D1X-T3
designator X?
Crystal, Quartz, 24 MHz, SMD, 2mm x 1.6mm x 0.5mm, 20 ppm, 8 pF, 10 ppm, ABM11W; Manufacturer: Abracon; MF: Abracon LLC; MP: ABM11W-24.0000MHZ-8-D1X-T3; ESR (Equivalent Series Resistance): 100Ω; Frequency: 24MHz; Frequency Stability: 20ppm; Frequency Tolerance: 0.001%; Load Capacitance: 8pF; ESR: 30Ω; SnapEDA_Link: https://www.snapeda.com/parts/ABM11W-24.0000MHZ-8-D1X-T3/Abracon/view-part/?ref=snap; Package: SMD-4 Abracon LLC; Value: *; Check_prices: https://www.snapeda.com/parts/ABM11W-24.0000MHZ-8-D1X-T3/Abracon/view-part/?ref=eda; Supplier: DigiKey; Supplier Part Number: 535-13835-1-ND; Manufacturer Part Number: ABM11W-24.0000MHZ-8-D1X-T3; RoHS: Compliant; Category: Crystals; Stock: 2752; Pricing: 1=0,38, 10=0,334, 25=0,3156, 50=0,3024, 100=0,29, 250=0,27424, 500=0,26288, 1000=0,25201 (USD); China RoHS: Compliant; Height: 500µm; Length: 2mm; Lifecycle Status: Production; Max Operating Temperature: 85°C; Min Operating Temperature: -40°C; Mounting Technology: Surface Mount; REACH SVHC: Yes; Tolerance: 0.001%; Width: 1.6mm; ComponentLink1URL: https://datasheet.octopart.com:443/ABM11W-24.0000MHZ-8-D1X-T3-Abracon-datasheet-154833168.pdf?src-supplier=IHS; ComponentLink1Description: https://datasheet.octopart.com:443/ABM11W-24.0000MHZ-8-D1X-T3-Abracon-datasheet-154833168.pdf?src-supplier=IHS; ComponentLink2URL: https://datasheet.octopart.com:443/ABM11W-24.0000MHZ-8-D1X-T3-Abracon-datasheet-102760955.pdf?src-supplier=Upverter; ComponentLink2Description: https://datasheet.octopart.com:443/ABM11W-24.0000MHZ-8-D1X-T3-Abracon-datasheet-102760955.pdf?src-supplier=Upverter; ComponentLink3URL: https://datasheet.octopart.com:443/ABM11W-24.0000MHZ-8-D1X-T3-Abracon-datasheet-112015802.pdf?src-supplier=Master+Electronics; ComponentLink3Description: https://datasheet.octopart.com:443/ABM11W-24.0000MHZ-8-D1X-T3-Abracon-datasheet-112015802.pdf?src-supplier=Master+Electronics; ComponentLink4URL: https://datasheet.octopart.com:443/ABM11W-24.0000MHZ-8-D1X-T3-Abracon-datasheet-182204996.pdf?src-supplier=Master+Electronics; ComponentLink4Description: https://datasheet.octopart.com:443/ABM11W-24.0000MHZ-8-D1X-T3-Abracon-datasheet-182204996.pdf?src-supplier=Master+Electronics; ComponentLink5URL: https://sigma.octopart.com:443/141159858/technical_drawing/Abracon-ABM11W-24.0000MHZ-8-D1X-T3.pdf?src-supplier=Abracon+SCT; ComponentLink5Description: https://sigma.octopart.com:443/141159858/technical_drawing/Abracon-ABM11W-24.0000MHZ-8-D1X-T3.pdf?src-supplier=Abracon+SCT; ComponentLink6URL: http://sigma.octopart.com:80/conflict_mineral_statement/Abracon-company-27.pdf?src-supplier=Compliance+Statements; ComponentLink6Description: http://sigma.octopart.com:80/conflict_mineral_statement/Abracon-company-27.pdf?src-supplier=Compliance+Statements
footprint XTAL_ABM11W-24.0000MHZ-8-D1X-T3
pins: 1, 2 GND (power), 3 2, 4 GND (power)

## AD8544ARUZ-REEL
designator U?
Single-supply operation: 2.7 V to 5.5 V  Low supply current: 45 A/amplifier  Wide bandwidth: 1 MHz  No phase reversal  Low input currents: 4 pA  Unity gain stable  Rail-to-rail input and output  AEC-Q100 qualified for automotive applications; Manufacturer_Name: Analog Devices; Geometry.Height: 1.2mm; Manufacturer_Part_Number: AD8544ARUZ-REEL; Mouser Part Number: 584-AD8544ARUZ-R; Mouser Price/Stock: https://www.mouser.co.uk/ProductDetail/Analog-Devices/AD8544ARUZ-REEL?qs=%2FtpEQrCGXCzshxYletFRHw%3D%3D; Arrow Part Number: AD8544ARUZ-REEL; Arrow Price/Stock: https://www.arrow.com/en/products/ad8544aruz-reel/analog-devices; Datasheet Link: https://www.analog.com/AD8544/datasheet
footprint AD8544ARUZ-REEL
pins: 1 OUT_A, 2 -IN_A, 3 +IN_A, 4 V+, 5 +IN_B, 6 -IN_B, 7 OUT_B, 8 OUT_C, 9 -IN_C, 10 +IN_C, 11 V-, 12 +IN_D, 13 -IN_D, 14 OUT_D

## AMS1117-5.0
designator U?
1A LOW DROPOUT VOLTAGE REGULATOR; Manufacturer_Name: Advanced Monolithic Systems; Geometry.Height: 1.8mm; Manufacturer_Part_Number: AMS1117-5.0; Mouser Part Number: *; Mouser Price/Stock: *; Arrow Part Number: *; Arrow Price/Stock: *; Datasheet Link: http://www.advanced-monolithic.com/pdf/ds1117.pdf
footprint AMS1117-5.0
pins: 1, 2 (power), 3 (power), 4 (power)
text: VIN; VOUT; GND

## AO3407A
designator Q?
Trans Mosfet P-ch 30V 4.3A 3-PIN SOT-23 / Mosfet P-ch 30V 4.3A SOT23; Manufacturer_Name: Alpha & Omega Semiconductors; Manufacturer: Alpha & Omega Semiconductor; Geometry.Height: 1.25mm; Drain to Source Resistance: 48mΩ; Gate to Source Voltage (Vgs): 20V; Input Capacitance: 830pF; Max Power Dissipation: 1.4W; Number of Elements: 1; Manufacturer_Part_Number: AO3407A; Mouser Part Number: *; Mouser Price/Stock: *; Arrow Part Number: AO3407A; Arrow Price/Stock: https://www.arrow.com/en/products/ao3407a/alpha-and-omega-semiconductor?utm_currency=USD&region=nac; Datasheet Link: http://www.aosmd.com/pdfs/datasheet/ao3407a.pdf; Supplier: DigiKey; Supplier Part Number: 785-1006-1-ND; Manufacturer Part Number: AO3407A; RoHS: Compliant; Category: MOSFETs; Stock: 638444; Pricing: 1=0,46, 10=0,282, 100=0,1787, 500=0,1337, 1000=0,11915 (USD); Case/Package: SOT-23; Continuous Drain Current (ID): 4.3A; Drain to Source Voltage (Vdss): 30V; Lead Free: Lead Free; Lifecycle Status: Production; Max Operating Temperature: 150°C; Min Breakdown Voltage: 30V; Min Operating Temperature: -55°C; Mounting Technology: Surface Mount; Pins: 3; Number of Terminals: 3; Power Dissipation: 1.4W; Radiation Hardening: No; Rds On Max: 48mΩ; REACH SVHC: Yes; Schedule B: 8541290080, 8541290080|8541290080|8541290080|8541290080|8541290080; ComponentLink1URL: https://datasheet.octopart.com:443/AO3407A-Alpha-%26-Omega-Semiconductor-datasheet-17018024.pdf?src-supplier=IHS; ComponentLink1Description: https://datasheet.octopart.com:443/AO3407A-Alpha-%26-Omega-Semiconductor-datasheet-17018024.pdf?src-supplier=IHS; ComponentLink2URL: https://sigma.octopart.com:443/140150677/technical_drawing/Alpha-%26-Omega-Semiconductor-AO3407A.pdf?src-supplier=Alpha+%26+Omega+Semiconductor+SCT; ComponentLink2Description: https://sigma.octopart.com:443/140150677/technical_drawing/Alpha-%26-Omega-Semiconductor-AO3407A.pdf?src-supplier=Alpha+%26+Omega+Semiconductor+SCT; ComponentLink3URL: https://datasheet.octopart.com:443/AO3407A-Alpha-%26-Omega-Semiconductor-datasheet-14060812.pdf?src-supplier=iiiC; ComponentLink3Description: https://datasheet.octopart.com:443/AO3407A-Alpha-%26-Omega-Semiconductor-datasheet-14060812.pdf?src-supplier=iiiC; ComponentLink4URL: https://datasheet.octopart.com:443/AO3407A-Alpha-%26-Omega-Semiconductor-datasheet-5389863.pdf?src-supplier=Verical; ComponentLink4Description: https://datasheet.octopart.com:443/AO3407A-Alpha-%26-Omega-Semiconductor-datasheet-5389863.pdf?src-supplier=Verical
footprint AO3407A
pins: 1 G, 2 S, 3 D

## AO4286
designator U?
No Description Available; Manufacturer_Name: Alpha and Omega Semiconductor; Copyright: Copyright (C) 2025 Ultra Librarian. All rights reserved.; Manufacturer_Part_Number: AO4286; RefDes: RefDes; Type: Type; ComponentLink1Description: Datasheet; ComponentLink1URL: https://datasheet.ciiva.com/pdfs/VipMasterIC/IC/ALOM/ALOM-S-A0002373245/ALOM-S-A0002373245-1.pdf?src-supplier=IHS+Markit
footprint SO-8_AOS
pins: 1 S, 2 S, 3 S, 4 G, 5 D, 6 D, 7 D, 8 D

## E22-900T22S
designator U?
SX1262 868/915MHz UART SMD LoRa Module
footprint E22-900T22S
part C pins: 1 GND (power), 2 GND (power), 3 GND (power), 4 GND (power), 5 M0 (in), 6 M1 (in), 7 RXD (in), 8 TXD (out), 9 AUX (out), 10 VCC (power), 11 GND (power), 12 NC, 13 GND (power), 14 NC, 15 NC, 16 NC, 17 NC, 18 NC, 19 GND (power), 20 GND (power), 21 ANT (out), 22 GND (power)

## EDK476M035S9GAA
designator C?
Surface Mount, Aluminum Electrolytic; Manufacturer_Name: Yageo Group; Geometry.Height: 5.65mm; Manufacturer_Part_Number: EDK476M035S9GAA; Mouser Part Number: 80-EDK476M035S9GAA; Mouser Price/Stock: https://www.mouser.co.uk/ProductDetail/KEMET/EDK476M035S9GAA?qs=T9vdlufmP8xkQWuUhcj0Kg%3D%3D; Arrow Part Number: EDK476M035S9GAA; Arrow Price/Stock: https://www.arrow.com/en/products/edk476m035s9gaa/kemet-corporation?utm_currency=USD&region=nac; Datasheet Link: https://www.yageogroup.com/content/datasheet/asset/file/KEM_A4001_EDK
footprint EDK476M035S9GAA
pins: 1 +, 2 -

## ESP32-C3
designator U?
400KB 22 3V~3.6V RISC-V 160MHz QFN-32-EP(5x5) Microcontroller Units (MCUs/MPUs/SOCs) ROHS; Manufacturer_Name: Espressif Systems; Geometry.Height: 0.9mm; Manufacturer_Part_Number: ESP32-C3; Mouser Part Number: 356-ESP32-C3; Mouser Price/Stock: https://www.mouser.co.uk/ProductDetail/Espressif-Systems/ESP32-C3?qs=iLbezkQI%252BsiMXe7tMG%252Bo%2FA%3D%3D; Arrow Part Number: *; Arrow Price/Stock: *; Datasheet Link: https://www.espressif.com/sites/default/files/documentation/esp32-c3_datasheet_en.pdf
footprint ESP32-C3
pins: 1 LNA_IN, 2 VDD3P3_1, 3 VDD3P3_2, 4 XTAL_32K_P, 5 XTAL_32K_N, 6 GPIO2, 7 CHIP_EN, 8 GPIO3, 9 MTMS, 10 MTDI, 11 VDD3P3_RTC, 12 MTCK, 13 MTDO, 14 GPIO8, 15 GPIO9, 16 GPIO10, 17 VDD3P3_CPU, 18 VDD_SPI, 19 SPIHD, 20 SPIWP, 21 SPICS0, 22 SPICLK, 23 SPID, 24 SPIQ, 25 GPIO18, 26 GPIO19, 27 U0RXD, 28 U0TXD, 29 XTAL_N, 30 XTAL_P, 31 VDDA_1, 32 VDDA_2, 33 GND